# Altium footprint library cSLIM-SA.PcbLib: 47 footprints (part 3 of 3)
Each footprint in its own frame and in the unit in brackets; x right, y up, seen from the top. Pads: shape width x height; smd on the part's side, far side on the other; paste and mask are expansions set on the pad; w line width, h text height; cw(c..) or ccw(c..) is an arc to the next point about the centre after c.
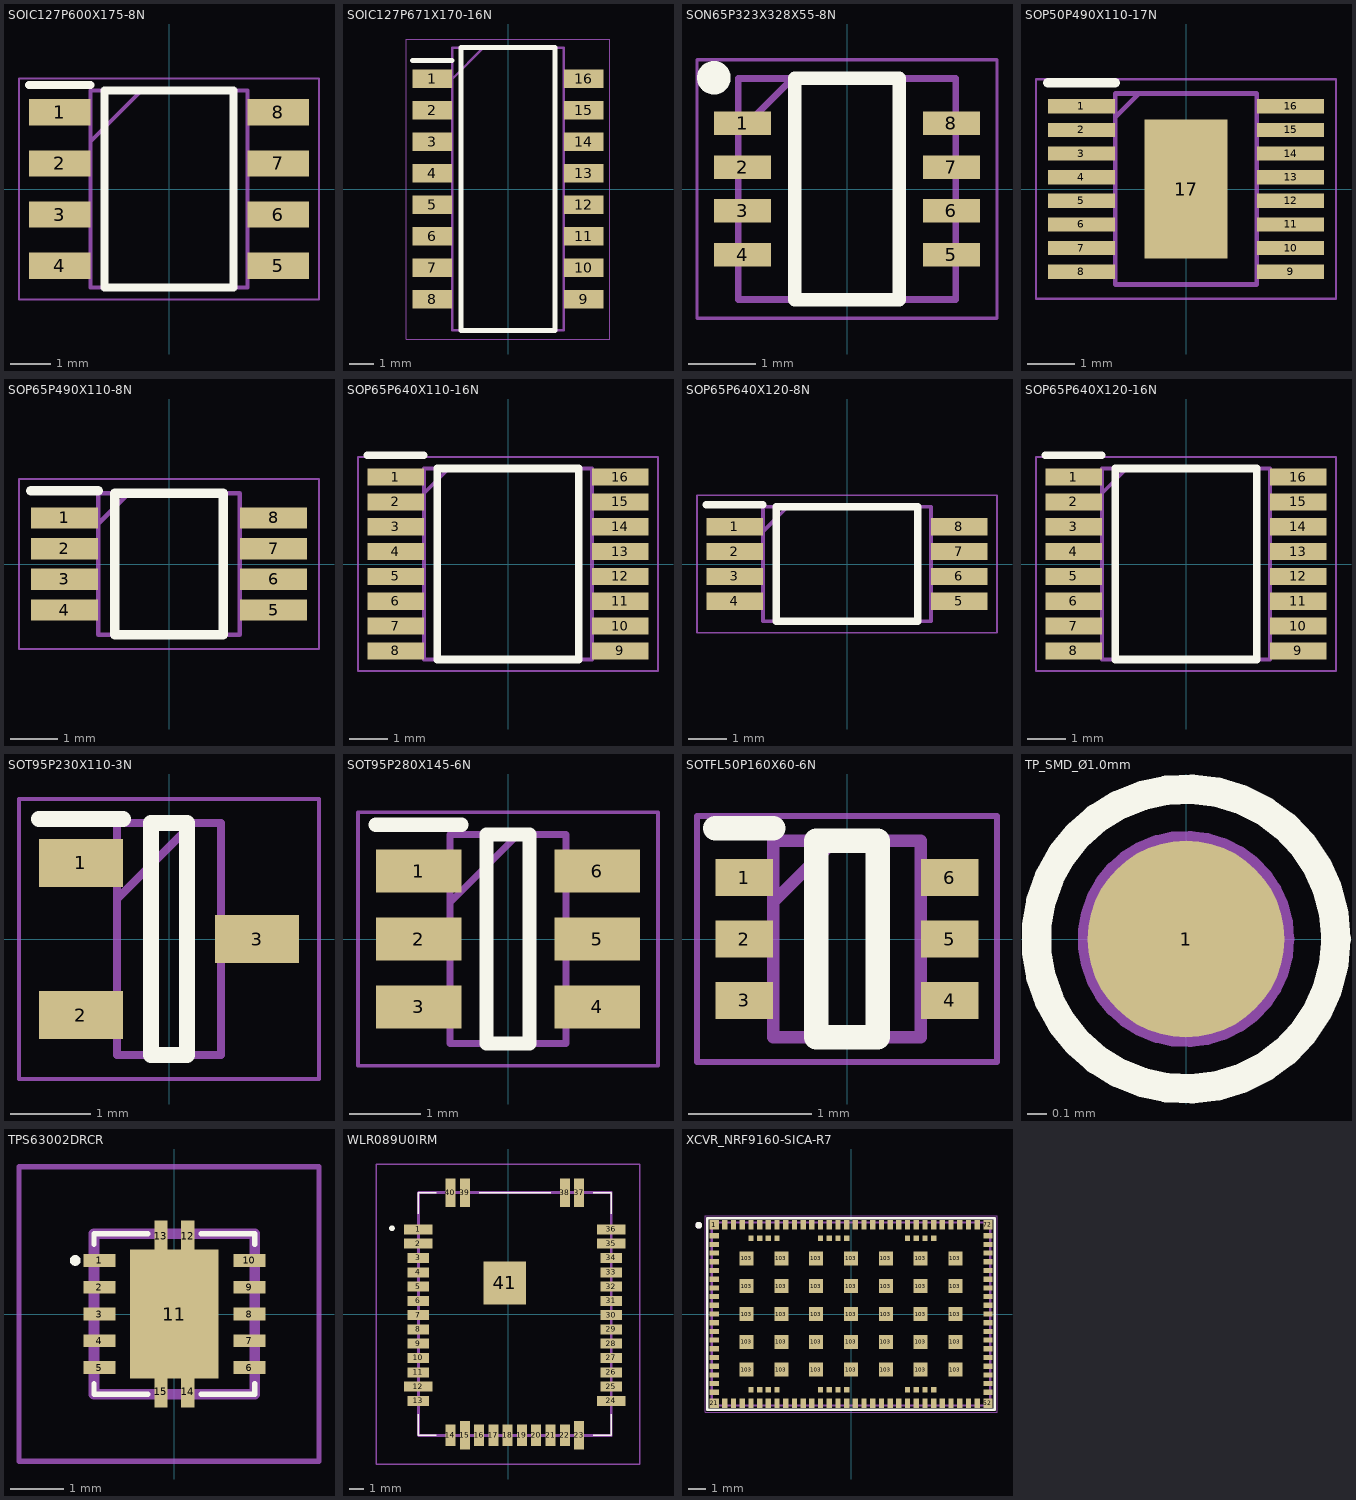
[diagram p2: the footprints below, top view; thin cyan lines are the x and y axes]

## SOIC127P600X175-8N [mm]
pads (8):
  rect 1.525x0.65 smd: 1(-2.712,1.905) 2(-2.712,0.635) 3(-2.712,-0.635) 4(-2.712,-1.905) 5(2.712,-1.905) 6(2.712,-0.635) 7(2.712,0.635) 8(2.712,1.905)
Top Overlay:
  lines w0.2: -3.475,2.58 -1.95,2.58 ; -1.6,-2.45 -1.6,2.45 1.6,2.45 1.6,-2.45 -1.6,-2.45
Mechanical 13:
  lines w0.1: -1.95,1.18 -0.68,2.45 ; -1.95,-2.45 -1.95,2.45 1.95,2.45 1.95,-2.45 -1.95,-2.45
Mechanical 15:
  lines w0.05: -3.725,-2.75 -3.725,2.75 3.725,2.75 3.725,-2.75 -3.725,-2.75
3D body "MAX3486ESA+.stp": height 1.75, standoff 0, extent -3,-2.45 3,2.45

## SOIC127P671X170-16N [mm]
pads (16):
  rect 1.6x0.75 smd: 1(-3.05,4.445) 2(-3.05,3.175) 3(-3.05,1.905) 4(-3.05,0.635) 5(-3.05,-0.635) 6(-3.05,-1.905) 7(-3.05,-3.175) 8(-3.05,-4.445) 9(3.05,-4.445) 10(3.05,-3.175) 11(3.05,-1.905) 12(3.05,-0.635) 13(3.05,0.635) 14(3.05,1.905) 15(3.05,3.175) 16(3.05,4.445)
Top Overlay:
  lines w0.2: -3.85,5.17 -2.25,5.17 ; -1.9,-5.69 -1.9,5.69 1.9,5.69 1.9,-5.69 -1.9,-5.69
Mechanical 13:
  lines w0.1: -2.25,4.42 -0.98,5.69 ; -2.25,-5.69 -2.25,5.69 2.25,5.69 2.25,-5.69 -2.25,-5.69
Mechanical 15:
  lines w0.05: -4.1,-6.04 -4.1,6.04 4.1,6.04 4.1,-6.04 -4.1,-6.04
3D body "97C08ST.stp": height 1.7, standoff 0, extent -3.355,-5.69 3.355,5.69

## SON65P323X328X55-8N [mm]
pads (8):
  rect 0.85x0.35 smd: 1(-1.55,0.975) 2(-1.55,0.325) 3(-1.55,-0.325) 4(-1.55,-0.975) 5(1.55,-0.975) 6(1.55,-0.325) 7(1.55,0.325) 8(1.55,0.975)
Top Overlay:
  circle w0.25: c-1.975,1.65 r0.125
  lines w0.2: -0.775,-1.64 0.775,-1.64 0.775,1.64 -0.775,1.64 -0.775,-1.64
Mechanical 13:
  lines w0.1: -1.615,0.832 -0.808,1.64 ; -1.615,-1.64 1.615,-1.64 1.615,1.64 -1.615,1.64 -1.615,-1.64
Mechanical 15:
  lines w0.05: -2.225,-1.915 2.225,-1.915 2.225,1.915 -2.225,1.915 -2.225,-1.915
3D body "CY15B108QN-20LPXC.stp": height 0.55, standoff 0, extent -1.665,-1.64 1.665,1.64

## SOP50P490X110-17N [mm]
pads (17):
  rect 1.425x0.3 smd: 1(-2.212,1.75) 2(-2.212,1.25) 3(-2.212,0.75) 4(-2.212,0.25) 5(-2.212,-0.25) 6(-2.212,-0.75) 7(-2.212,-1.25) 8(-2.212,-1.75) 9(2.212,-1.75) 10(2.212,-1.25) 11(2.212,-0.75) 12(2.212,-0.25) 13(2.212,0.25) 14(2.212,0.75) 15(2.212,1.25) 16(2.212,1.75)
  rect 1.753x2.947 smd: 17(0,0)
Top Overlay:
  lines w0.2: -2.925,2.25 -1.5,2.25
Mechanical 13:
  lines w0.1: -1.5,1.52 -1,2.02 ; -1.5,-2.02 -1.5,2.02 1.5,2.02 1.5,-2.02 -1.5,-2.02
Mechanical 15:
  lines w0.05: -3.175,-2.32 -3.175,2.32 3.175,2.32 3.175,-2.32 -3.175,-2.32
3D body "LTC3129EMSE#TRPBF.stp": height 1.1, standoff 0, extent -2.45,-2.02 2.45,2.02

## SOP65P490X110-8N [mm]
pads (8):
  rect 1.425x0.45 smd: 1(-2.212,0.975) 2(-2.212,0.325) 3(-2.212,-0.325) 4(-2.212,-0.975) 5(2.212,-0.975) 6(2.212,-0.325) 7(2.212,0.325) 8(2.212,0.975)
Top Overlay:
  lines w0.2: -2.925,1.55 -1.5,1.55 ; -1.15,-1.5 1.15,-1.5 1.15,1.5 -1.15,1.5 -1.15,-1.5
Mechanical 13:
  lines w0.1: -1.5,0.85 -0.85,1.5 ; -1.5,-1.5 1.5,-1.5 1.5,1.5 -1.5,1.5 -1.5,-1.5
Mechanical 15:
  lines w0.05: -3.175,-1.8 3.175,-1.8 3.175,1.8 -3.175,1.8 -3.175,-1.8
3D body "MAX3471EUA+.stp": height 1.1, standoff 0, extent -2.452,-1.5 2.452,1.5

## SOP65P640X110-16N [mm]
pads (16):
  rect 1.475x0.45 smd: 1(-2.938,2.275) 2(-2.938,1.625) 3(-2.938,0.975) 4(-2.938,0.325) 5(-2.938,-0.325) 6(-2.938,-0.975) 7(-2.938,-1.625) 8(-2.938,-2.275) 9(2.938,-2.275) 10(2.938,-1.625) 11(2.938,-0.975) 12(2.938,-0.325) 13(2.938,0.325) 14(2.938,0.975) 15(2.938,1.625) 16(2.938,2.275)
Top Overlay:
  lines w0.2: -3.675,2.85 -2.2,2.85 ; -1.85,-2.5 1.85,-2.5 1.85,2.5 -1.85,2.5 -1.85,-2.5
Mechanical 13:
  lines w0.1: -2.2,1.85 -1.55,2.5 ; -2.2,-2.5 2.2,-2.5 2.2,2.5 -2.2,2.5 -2.2,-2.5
Mechanical 15:
  lines w0.05: -3.925,-2.8 3.925,-2.8 3.925,2.8 -3.925,2.8 -3.925,-2.8
3D body "MAX3221CUE+.stp": height 1.1, standoff 0, extent -3.2,-2.5 3.2,2.5

## SOP65P640X120-8N [mm]
pads (8):
  rect 1.475x0.45 smd: 1(-2.938,0.975) 2(-2.938,0.325) 3(-2.938,-0.325) 4(-2.938,-0.975) 5(2.938,-0.975) 6(2.938,-0.325) 7(2.938,0.325) 8(2.938,0.975)
Top Overlay:
  lines w0.2: -3.675,1.55 -2.2,1.55 ; -1.85,-1.5 1.85,-1.5 1.85,1.5 -1.85,1.5 -1.85,-1.5
Mechanical 13:
  lines w0.1: -2.2,0.85 -1.55,1.5 ; -2.2,-1.5 2.2,-1.5 2.2,1.5 -2.2,1.5 -2.2,-1.5
Mechanical 15:
  lines w0.05: -3.925,-1.8 3.925,-1.8 3.925,1.8 -3.925,1.8 -3.925,-1.8
3D body "TPS2113PWR.stp": height 1.06, standoff -0.04, extent -3.21,-1.5 3.21,1.5

## SOP65P640X120-16N [mm]
pads (16):
  rect 1.475x0.45 smd: 1(-2.938,2.275) 2(-2.938,1.625) 3(-2.938,0.975) 4(-2.938,0.325) 5(-2.938,-0.325) 6(-2.938,-0.975) 7(-2.938,-1.625) 8(-2.938,-2.275) 9(2.938,-2.275) 10(2.938,-1.625) 11(2.938,-0.975) 12(2.938,-0.325) 13(2.938,0.325) 14(2.938,0.975) 15(2.938,1.625) 16(2.938,2.275)
Top Overlay:
  lines w0.2: -3.675,2.85 -2.2,2.85 ; -1.85,-2.5 1.85,-2.5 1.85,2.5 -1.85,2.5 -1.85,-2.5
Mechanical 13:
  lines w0.1: -2.2,1.85 -1.55,2.5 ; -2.2,-2.5 2.2,-2.5 2.2,2.5 -2.2,2.5 -2.2,-2.5
Mechanical 15:
  lines w0.05: -3.925,-2.8 3.925,-2.8 3.925,2.8 -3.925,2.8 -3.925,-2.8
3D body "SN74AVC4T774PWR.stp": height 1.13, standoff 0, extent -3.2,-2.5 3.2,2.5

## SOT95P230X110-3N [mm]
pads (3):
  rect 1.05x0.6 smd: 1(-1.1,0.95) 2(-1.1,-0.95) 3(1.1,0)
Top Overlay:
  lines w0.2: -1.625,1.5 -0.575,1.5 ; -0.225,-1.45 -0.225,1.45 0.225,1.45 0.225,-1.45 -0.225,-1.45
Mechanical 13:
  lines w0.1: -0.65,0.5 0.3,1.45 ; -0.65,-1.45 -0.65,1.45 0.65,1.45 0.65,-1.45 -0.65,-1.45
Mechanical 15:
  lines w0.05: -1.875,-1.75 -1.875,1.75 1.875,1.75 1.875,-1.75 -1.875,-1.75
3D body "NX2301P,215.stp": height 0.95, standoff 0, extent -1.201,-1.448 1.199,1.452

## SOT95P280X145-6N [mm]
pads (6):
  rect 1.2x0.6 smd: 1(-1.25,0.95) 2(-1.25,0) 3(-1.25,-0.95) 4(1.25,-0.95) 5(1.25,0) 6(1.25,0.95)
Top Overlay:
  lines w0.2: -1.85,1.6 -0.65,1.6 ; -0.3,-1.462 0.3,-1.462 0.3,1.462 -0.3,1.462 -0.3,-1.462
Mechanical 13:
  lines w0.1: -0.812,0.512 0.138,1.462 ; -0.812,-1.462 0.812,-1.462 0.812,1.462 -0.812,1.462 -0.812,-1.462
Mechanical 15:
  lines w0.05: -2.1,-1.775 2.1,-1.775 2.1,1.775 -2.1,1.775 -2.1,-1.775
3D body "USBLC6-2SC6.stp": height 1.45, standoff 0, extent -1.4,-1.462 1.4,1.462

## SOTFL50P160X60-6N [mm]
pads (6):
  rect 0.47x0.3 smd: 1(-0.835,0.5) 2(-0.835,0) 3(-0.835,-0.5) 4(0.835,-0.5) 5(0.835,0) 6(0.835,0.5)
Top Overlay:
  lines w0.2: -1.07,0.9 -0.6,0.9 ; -0.25,-0.8 -0.25,0.8 0.25,0.8 0.25,-0.8 -0.25,-0.8
Mechanical 13:
  lines w0.1: -0.6,0.3 -0.1,0.8 ; -0.6,-0.8 -0.6,0.8 0.6,0.8 0.6,-0.8 -0.6,-0.8
Mechanical 15:
  lines w0.05: -1.22,-1 -1.22,1 1.22,1 1.22,-1 -1.22,-1
3D body "SI1040X-T1-GE3.stp": height 0.6, standoff 0, extent -0.8,-0.8 0.8,0.8

## TP_SMD_Ø1.0mm [mm] "TestPad Ø1mm"
pads (1):
  round 1 smd paste-5: 1(0,0)
Top Overlay:
  circle w0.15: c0,0 r0.762
Mechanical 7:
  circle w0.1: c0,0 r0.5
  circle w0.1: c0,0 r0.762

## TPS63002DRCR [mm]
pads (15):
  rect 0.6x0.24 smd: 1(-1.4,1) 2(-1.4,0.5) 3(-1.4,0) 4(-1.4,-0.5) 5(-1.4,-1) 6(1.4,-1) 7(1.4,-0.5) 8(1.4,0) 9(1.4,0.5) 10(1.4,1)
  rect 1.65x2.4 smd: 11(0,0)
  rect 0.25x0.6 smd: 12(0.25,1.45) 13(-0.25,1.45) 14(0.25,-1.45) 15(-0.25,-1.45)
Top Overlay:
  lines w0.1: -1.5,-1.3 -1.5,-1.5 -0.5,-1.5 ; -1.5,1.3 -1.5,1.5 -0.5,1.5 ; 0.5,-1.5 1.5,-1.5 1.5,-1.3 ; 0.5,1.5 1.5,1.5 1.5,1.3 ; -1.9,1 cw(c-1.85,1) -1.8,1 cw(c-1.85,1) -1.9,1
Mechanical 13:
  lines w0.2: -1.5,-1.5 -1.5,1.5 1.5,1.5 1.5,-1.5 -1.5,-1.5
Mechanical 15:
  lines w0.1: -2.9,-2.75 -2.9,2.75 2.7,2.75 2.7,-2.75 -2.9,-2.75
3D body "TPS63000DRCR.stp": height 1, standoff 0, extent -1.5,-1.5 1.5,1.5

## WLR089U0IRM [mm]
pads (41):
  rect 2x0.7 smd: 1(-6.275,5.92) 2(-6.275,4.92) 12(-6.275,-5.08) 24(7.225,-6.08) 35(7.225,4.92) 36(7.225,5.92)
  rect 1.5x0.7 smd: 3(-6.275,3.92) 4(-6.275,2.92) 5(-6.275,1.92) 6(-6.275,0.92) 7(-6.275,-0.08) 8(-6.275,-1.08) 9(-6.275,-2.08) 10(-6.275,-3.08) 11(-6.275,-4.08) 13(-6.275,-6.08) 25(7.225,-5.08) 26(7.225,-4.08) 27(7.225,-3.08) 28(7.225,-2.08) 29(7.225,-1.08) 30(7.225,-0.08) 31(7.225,0.92) 32(7.225,1.92) 33(7.225,2.92) 34(7.225,3.92)
  rect 0.7x1.5 smd: 14(-4.025,-8.5) 16(-2.025,-8.5) 17(-1.025,-8.5) 18(-0.025,-8.5) 19(0.975,-8.5) 20(1.975,-8.5) 21(2.975,-8.5) 22(3.975,-8.5)
  rect 0.7x2 smd: 15(-3.025,-8.5) 23(4.975,-8.5) 37(4.975,8.5) 38(3.975,8.5) 39(-3.025,8.5) 40(-4.025,8.5)
  rect 3x3.03 smd: 41(-0.225,2.17)
Top Overlay:
  lines w0.1: -6.275,-7 -6.275,-8.5 -5.025,-8.5 ; -6.275,7 -6.275,8.5 -5.025,8.5 ; -2.025,8.5 2.975,8.5 ; 5.975,-8.5 7.225,-8.5 7.225,-7 ; 5.975,8.5 7.225,8.5 7.225,7
  lines w0.2: -8.225,6 cw(c-8.125,6) -8.025,6 cw(c-8.125,6) -8.225,6
Mechanical 13:
  lines w0.2: -6.275,-8.5 7.225,-8.5 7.225,8.5 -6.275,8.5 -6.275,-8.5
Mechanical 15:
  lines w0.1: -9.225,-10.5 9.225,-10.5 9.225,10.5 -9.225,10.5 -9.225,-10.5
3D body "WLR089U0-I_RM.stp": height 2.9, standoff 0, extent -6.275,-8.5 7.225,8.5

## XCVR_NRF9160-SICA-R7 [mm]
pads (161):
  rect 0.54x0.54 smd: 1(-7.87,5.12) 21(-7.87,-5.12) 52(7.87,-5.12) 72(7.87,5.12)
  rect 0.54x0.3 smd: 2(-7.87,4.5) 3(-7.87,4) 4(-7.87,3.5) 5(-7.87,3) 6(-7.87,2.5) 7(-7.87,2) 8(-7.87,1.5) 9(-7.87,1) 10(-7.87,0.5) 11(-7.87,0) 12(-7.87,-0.5) 13(-7.87,-1) 14(-7.87,-1.5) 15(-7.87,-2) 16(-7.87,-2.5) 17(-7.87,-3) 18(-7.87,-3.5) 19(-7.87,-4) 20(-7.87,-4.5) 53(7.87,-4.5) 54(7.87,-4) 55(7.87,-3.5) 56(7.87,-3) 57(7.87,-2.5) 58(7.87,-2) 59(7.87,-1.5) 60(7.87,-1) 61(7.87,-0.5) 62(7.87,0) 63(7.87,0.5) 64(7.87,1) 65(7.87,1.5) 66(7.87,2) 67(7.87,2.5) 68(7.87,3) 69(7.87,3.5) 70(7.87,4) 71(7.87,4.5)
  rect 0.3x0.54 smd: 22(-7.25,-5.12) 23(-6.75,-5.12) 24(-6.25,-5.12) 25(-5.75,-5.12) 26(-5.25,-5.12) 27(-4.75,-5.12) 28(-4.25,-5.12) 29(-3.75,-5.12) 30(-3.25,-5.12) 31(-2.75,-5.12) 32(-2.25,-5.12) 33(-1.75,-5.12) 34(-1.25,-5.12) 35(-0.75,-5.12) 36(-0.25,-5.12) 37(0.25,-5.12) 38(0.75,-5.12) 39(1.25,-5.12) 40(1.75,-5.12) 41(2.25,-5.12) 42(2.75,-5.12) 43(3.25,-5.12) 44(3.75,-5.12) 45(4.25,-5.12) 46(4.75,-5.12) 47(5.25,-5.12) 48(5.75,-5.12) 49(6.25,-5.12) 50(6.75,-5.12) 51(7.25,-5.12) 73(7.25,5.12) 74(6.75,5.12) 75(6.25,5.12) 76(5.75,5.12) 77(5.25,5.12) 78(4.75,5.12) 79(4.25,5.12) 80(3.75,5.12) 81(3.25,5.12) 82(2.75,5.12) 83(2.25,5.12) 84(1.75,5.12) 85(1.25,5.12) 86(0.75,5.12) 87(0.25,5.12) 88(-0.25,5.12) 89(-0.75,5.12) 90(-1.25,5.12) 91(-1.75,5.12) 92(-2.25,5.12) 93(-2.75,5.12) 94(-3.25,5.12) 95(-3.75,5.12) 96(-4.25,5.12) 97(-4.75,5.12) 98(-5.25,5.12) 99(-5.75,5.12) 100(-6.25,5.12) 101(-6.75,5.12) 102(-7.25,5.12)
  rect 0.8x0.8 smd: 103(-6,-3.2) 103(-6,-1.6) 103(-6,0) 103(-6,1.6) 103(-6,3.2) 103(-4,-3.2) 103(-4,-1.6) 103(-4,0) 103(-4,1.6) 103(-4,3.2) 103(-2,-3.2) 103(-2,-1.6) 103(-2,0) 103(-2,1.6) 103(-2,3.2) 103(0,-3.2) 103(0,-1.6) 103(0,0) 103(0,1.6) 103(0,3.2) 103(2,-3.2) 103(2,-1.6) 103(2,0) 103(2,1.6) 103(2,3.2) 103(4,-3.2) 103(4,-1.6) 103(4,0) 103(4,1.6) 103(4,3.2) 103(6,-3.2) 103(6,-1.6) 103(6,0) 103(6,1.6) 103(6,3.2)
  rect 0.3x0.3 smd: 104(-5.75,-4.35) 105(-5.25,-4.35) 106(-4.75,-4.35) 107(-4.25,-4.35) 108(-1.75,-4.35) 109(-1.25,-4.35) 110(-0.75,-4.35) 111(-0.25,-4.35) 112(3.25,-4.35) 113(3.75,-4.35) 114(4.25,-4.35) 115(4.75,-4.35) 116(4.75,4.35) 117(4.25,4.35) 118(3.75,4.35) 119(3.25,4.35) 120(-0.25,4.35) 121(-0.75,4.35) 122(-1.25,4.35) 123(-1.75,4.35) 124(-4.25,4.35) 125(-4.75,4.35) 126(-5.25,4.35) 127(-5.75,4.35)
Top Overlay:
  circle w0.2: c-8.75,5.1 r0.1
  lines w0.15: -8.25,-5.5 8.25,-5.5 8.25,5.5 -8.25,5.5 -8.25,-5.5
Mechanical 13:
  circle w0.2: c-8.75,5.1 r0.1
  lines w0.127: -8,-5.25 -8,5.25 8,5.25 8,-5.25 -8,-5.25
Mechanical 15:
  lines w0.05: -8.39,-5.64 -8.39,5.64 8.39,5.64 8.39,-5.64 -8.39,-5.64
3D body "NRF9160-SICA-R7--3DModel-STEP-56544.STEP": height 1.1, standoff 0, extent -8,-5.25 8,5.25